# Altium schematic symbol library GRM219R61E475KA73D.SchLib: 1 symbol
Pins are listed as number, name and electrical type; pins without a type are passive.

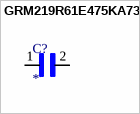
[diagram p0: symbol GRM219R61E475KA73D]

## GRM219R61E475KA73D
designator C?
SMD Capacitor X5R(EIA) with Capacitance: 4.7uF Tol. 10%. Rated Voltage: 25Vdc; MP: GRM219R61E475KA73D; Package: None; Price: None; Value: *; Availability: Unavailable
footprint CAPC2012X95N
pins: 1, 2